# EAGLE library part MAX3311 (library Schuyler)
TTL / RS232 transciever level shifter.
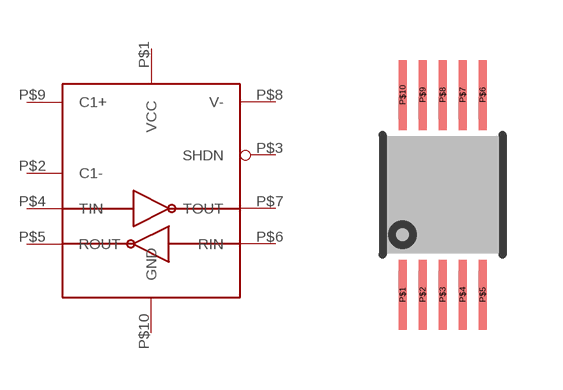
[diagram p9: symbol with the pads of UMAX10_MAXIM; footprint UMAX10_MAXIM]

Designator prefix -

## MAX3311MAX3311EEUB+ (MANPARTNUMBER: MAX3311EEUB+; MANUFACTURER: Maxim Integrated; PARTNUMBER: MAX3311EEUB+-ND; SUPPLIER: DIGIKEY; VERIFIED: TRUE)  [UMAX10_MAXIM]
P$1  VCC  pwr
P$2  C1-
P$3  SHDN
P$4  TIN  in
P$5  ROUT  out
P$6  RIN  in
P$7  TOUT  out
P$8  V-
P$9  C1+
P$10  GND  pwr

## Footprint UMAX10_MAXIM (pad centres in mm)
Maxim uMax 10. Modified to have extra pad exposed for soldering.
smd 0.2 x 1.75: P$1 -1,-2.5; P$2 -0.5,-2.5; P$3 0,-2.5; P$4 0.5,-2.5; P$5 1,-2.5; P$6 1,2.5; P$7 0.5,2.5; P$8 0,2.5; P$9 -0.5,2.5; P$10 -1,2.5